# EAGLE library part SN65HVDA195-Q1 (library customics)
LIN(ISO9141) and Most ECL Physical Interface Source: http://www.ti.com/lit/ds/symlink/sn65hvda195-q1.pdf
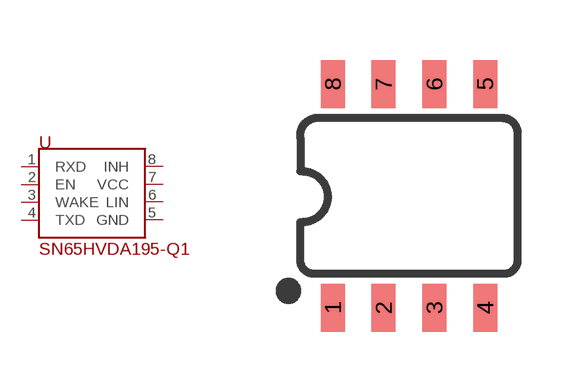
[diagram p2: symbol with the pads of SO08; footprint SO08]

Designator prefix U

## SN65HVDA195-Q1  [SO08]
1  RXD  out
2  EN  in
3  WAKE  in
4  TXD  in
5  GND  pwr
6  LIN
7  VCC  pwr
8  INH  out

## Footprint SO08 (pad centres in mm)
SOIC, 0.15 inch width
smd 0.6 x 1.2: 1 -1.905,-2.8; 2 -0.635,-2.8; 3 0.635,-2.8; 4 1.905,-2.8; 5 1.905,2.8; 6 0.635,2.8; 7 -0.635,2.8; 8 -1.905,2.8